# Altium footprint library TC2050-IDC-09Mar2012.PcbLib: 1 footprints
Each footprint in its own frame and in the unit in brackets; x right, y up, seen from the top. Pads: shape width x height; smd on the part's side, far side on the other; paste and mask are expansions set on the pad; w line width, h text height; cw(c..) or ccw(c..) is an arc to the next point about the centre after c.
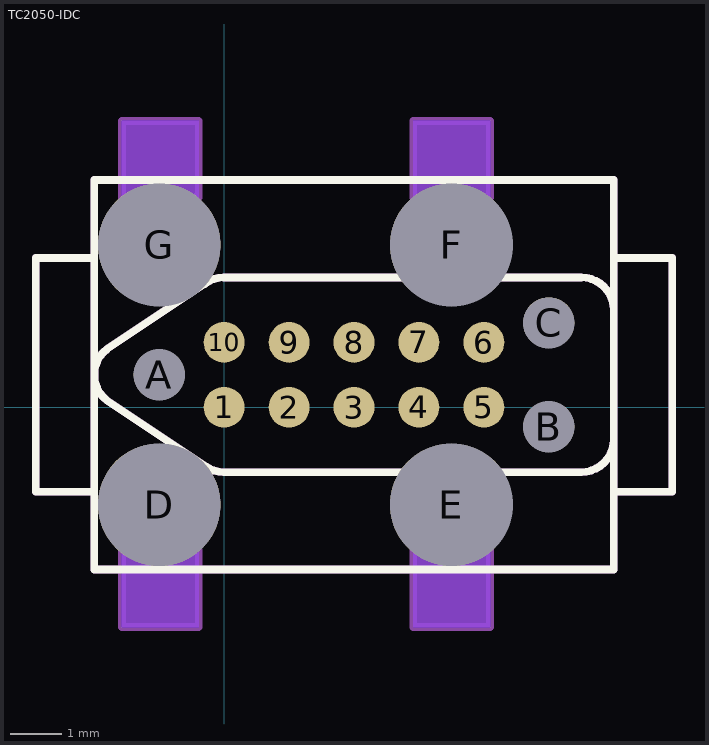
[diagram p0: the footprint, top view; thin cyan lines are the x and y axes]

## TC2050-IDC [mm]
pads (17):
  round 0.8 smd paste-0.9: 1(0,0) 2(1.27,0) 3(2.54,0) 4(3.81,0) 5(5.08,0) 6(5.08,1.27) 7(3.81,1.27) 8(2.54,1.27) 9(1.27,1.27) 10(0,1.27)
  round 1 hole 1 paste-1.1: A(-1.27,0.635) B(6.35,-0.381) C(6.35,1.651)
  round 2.4 hole 2.4 paste-2.5: D(-1.27,-1.905) E(4.445,-1.905) F(4.445,3.175) G(-1.27,3.175)
Bottom Layer keep-out:
  region: -2,-4.3 -0.5,-4.3 -0.5,-2.8 -2,-2.8
  region: 3.7,-4.3 5.2,-4.3 5.2,-2.8 3.7,-2.8
  region: -2,4.1 -0.5,4.1 -0.5,5.6 -2,5.6
  region: 3.7,4.1 5.2,4.1 5.2,5.6 3.7,5.6
Top Overlay:
  lines w0.152: -2.54,-1.778 -2.54,2.921 ; 7.62,-0.635 cw(c6.985,-0.635) 6.985,-1.27 0,-1.27 cw(c0,-0.635) -0.381,-1.143 -2.286,0.127 cw(c-1.905,0.635) -2.286,1.143 -0.381,2.413 cw(c0,1.905) 0,2.54 6.985,2.54 cw(c6.985,1.905) 7.62,1.905 ; -2.54,2.921 -3.683,2.921 -3.683,-1.651 -2.54,-1.651 -2.54,-3.175 7.62,-3.175 7.62,-1.651 ; -2.54,2.921 -2.54,4.445 7.62,4.445 7.62,2.921 ; 7.62,-1.651 7.62,2.921 ; 7.62,-1.651 8.636,-1.651 8.763,-1.651 8.763,2.921 7.62,2.921
Mechanical 1:
  lines w0.152: -2.54,-1.651 -3.683,-1.651 -3.683,2.921 -2.54,2.921 ; 7.62,-1.651 8.763,-1.651 8.763,2.921 7.62,2.921 ; 7.62,-0.635 cw(c6.985,-0.635) 6.985,-1.27 0,-1.27 cw(c0,-0.635) -0.381,-1.143 -2.286,0.127 cw(c-1.905,0.635) -2.286,1.143 -0.381,2.413 cw(c0,1.905) 0,2.54 6.985,2.54 cw(c6.985,1.905) 7.62,1.905 ; -2.54,-3.175 -2.54,4.445 7.62,4.445 7.62,0.635 7.62,-3.175 -2.54,-3.175 ; -2,-4.3 -2,-2.8 -0.5,-2.8 -0.5,-4.3 -2,-4.3 ; -2,4.1 -2,5.6 -0.5,5.6 -0.5,4.1 -2,4.1 ; 3.7,-4.3 5.2,-4.3 5.2,-2.8 3.7,-2.8 3.7,-4.3 ; 3.7,4.1 3.7,5.6 5.2,5.6 5.2,4.1 3.7,4.1